# Altium footprint library Header_254.PcbLib: 4 footprints
Each footprint in its own frame and in the unit in brackets; x right, y up, seen from the top. Pads: shape width x height; smd on the part's side, far side on the other; paste and mask are expansions set on the pad; w line width, h text height; cw(c..) or ccw(c..) is an arc to the next point about the centre after c.
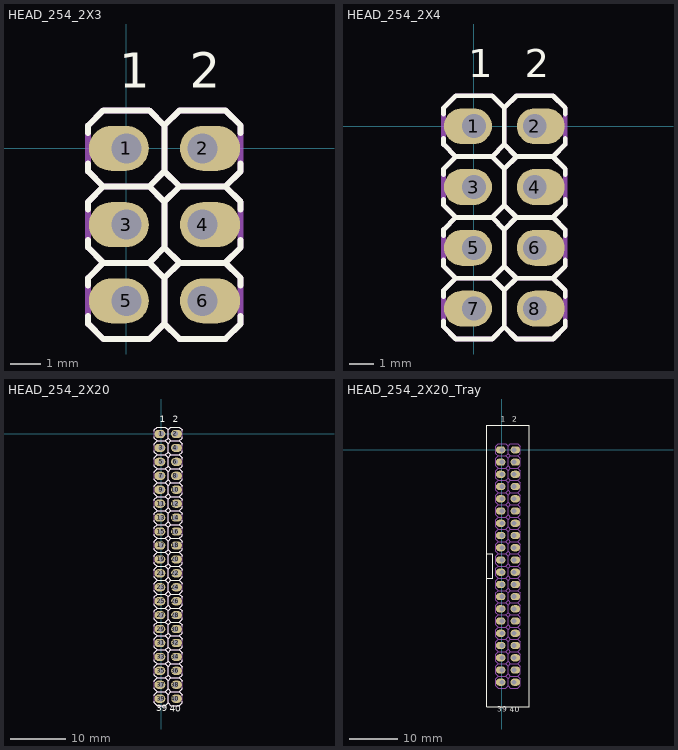
[diagram p0: the footprints below, top view; thin cyan lines are the x and y axes]

## HEAD_254_2X3 [mm] "Header 2.54mm 2x3"
pads (6):
  oval 2x1.5 hole 1 copper offset -0.25,0: 1(0,0) 3(0,-2.54) 5(0,-5.08)
  oval 2x1.5 hole 1 copper offset 0.25,0: 2(2.54,0) 4(2.54,-2.54) 6(2.54,-5.08)
Top Overlay:
  lines w0.2: -1.27,-5.588 -1.27,-5.842 -0.762,-6.35 0.762,-6.35 1.27,-5.842 ; -1.27,-4.572 -1.27,-4.318 -0.762,-3.81 ; -1.27,-3.048 -1.27,-3.302 -0.762,-3.81 ; -1.27,-2.032 -1.27,-1.778 -0.762,-1.27 ; -1.27,-0.508 -1.27,-0.762 -0.762,-1.27 ; -1.27,0.508 -1.27,0.762 -0.762,1.27 0.762,1.27 1.27,0.762 ; 3.81,-5.588 3.81,-5.842 3.302,-6.35 1.778,-6.35 1.27,-5.842 ; 3.81,-4.572 3.81,-4.318 3.302,-3.81 ; 3.81,-3.048 3.81,-3.302 3.302,-3.81 ; 3.81,-2.032 3.81,-1.778 3.302,-1.27 ; 3.81,-0.508 3.81,-0.762 3.302,-1.27 ; 3.81,0.508 3.81,0.762 3.302,1.27 1.778,1.27 1.27,0.762 ; -0.762,-3.81 0.762,-3.81 ; -0.762,-1.27 0.762,-1.27 ; 0.762,-3.81 1.27,-4.318 ; 0.762,-3.81 1.27,-3.302 ; 0.762,-1.27 1.27,-1.778 ; 0.762,-1.27 1.27,-0.762 ; 1.27,-5.842 1.27,-4.318 ; 1.27,-4.318 1.778,-3.81 ; 1.27,-3.302 1.27,-1.778 ; 1.27,-3.302 1.778,-3.81 ; 1.27,-1.778 1.778,-1.27 ; 1.27,-0.762 1.27,0.762 ; 1.27,-0.762 1.778,-1.27 ; 1.778,-3.81 3.302,-3.81 ; 1.778,-1.27 3.302,-1.27
  text "1" at -0.236,1.644 h2
  text "2" at 2.115,1.644 h2
Bottom Overlay:
  text "1" at 0.236,0.882 h2
  text "2" at 2.965,0.882 h2
Top Assembly:
  lines w0.2: -0.762,-3.81 -1.27,-4.318 -1.27,-5.842 -0.762,-6.35 0.762,-6.35 1.27,-5.842 ; -0.762,-3.81 -1.27,-3.302 -1.27,-1.778 -0.762,-1.27 ; -0.762,-3.81 0.762,-3.81 ; -0.762,-1.27 -1.27,-0.762 -1.27,0.762 -0.762,1.27 0.762,1.27 1.27,0.762 ; -0.762,-1.27 0.762,-1.27 ; 0.762,-3.81 1.27,-4.318 ; 0.762,-3.81 1.27,-3.302 ; 0.762,-1.27 1.27,-1.778 ; 0.762,-1.27 1.27,-0.762 ; 1.27,-5.842 1.27,-4.318 ; 1.27,-5.842 1.778,-6.35 3.302,-6.35 3.81,-5.842 3.81,-4.318 3.302,-3.81 ; 1.27,-4.318 1.778,-3.81 ; 1.27,-3.302 1.27,-1.778 ; 1.27,-3.302 1.778,-3.81 ; 1.27,-1.778 1.778,-1.27 ; 1.27,-0.762 1.27,0.762 ; 1.27,-0.762 1.778,-1.27 ; 1.27,0.762 1.778,1.27 3.302,1.27 3.81,0.762 3.81,-0.762 3.302,-1.27 ; 1.778,-3.81 3.302,-3.81 ; 1.778,-1.27 3.302,-1.27 ; 3.302,-3.81 3.81,-3.302 3.81,-1.778 3.302,-1.27
3D body: height 10, standoff -3, extent 2.19,-5.43 2.89,-4.73
3D body: height 2, standoff 0, extent 1.27,-6.35 3.81,-3.81
3D body: height 10, standoff -3, extent -0.35,-5.43 0.35,-4.73
3D body: height 2, standoff 0, extent -1.27,-6.35 1.27,-3.81
3D body: height 10, standoff -3, extent 2.19,-2.89 2.89,-2.19
3D body: height 2, standoff 0, extent 1.27,-3.81 3.81,-1.27
3D body: height 10, standoff -3, extent -0.35,-2.89 0.35,-2.19
3D body: height 2, standoff 0, extent -1.27,-3.81 1.27,-1.27
3D body: height 10, standoff -3, extent 2.19,-0.35 2.89,0.35
3D body: height 2, standoff 0, extent 1.27,-1.27 3.81,1.27
3D body: height 10, standoff -3, extent -0.35,-0.35 0.35,0.35
3D body: height 2, standoff 0, extent -1.27,-1.27 1.27,1.27

## HEAD_254_2X4 [mm] "Header 2.54mm 2x4"
pads (8):
  oval 2x1.5 hole 1 copper offset -0.25,0: 1(0,0) 3(0,-2.54) 5(0,-5.08) 7(0,-7.62)
  oval 2x1.5 hole 1 copper offset 0.25,0: 2(2.54,0) 4(2.54,-2.54) 6(2.54,-5.08) 8(2.54,-7.62)
Top Overlay:
  lines w0.2: -1.27,-8.128 -1.27,-8.382 -0.762,-8.89 0.762,-8.89 1.27,-8.382 ; -1.27,-7.112 -1.27,-6.858 -0.762,-6.35 ; -1.27,-5.588 -1.27,-5.842 -0.762,-6.35 ; -1.27,-4.572 -1.27,-4.318 -0.762,-3.81 ; -1.27,-3.048 -1.27,-3.302 -0.762,-3.81 ; -1.27,-2.032 -1.27,-1.778 -0.762,-1.27 ; -1.27,-0.508 -1.27,-0.762 -0.762,-1.27 ; -1.27,0.508 -1.27,0.762 -0.762,1.27 0.762,1.27 1.27,0.762 ; 3.81,-8.128 3.81,-8.382 3.302,-8.89 1.778,-8.89 1.27,-8.382 ; 3.81,-7.112 3.81,-6.858 3.302,-6.35 ; 3.81,-5.588 3.81,-5.842 3.302,-6.35 ; 3.81,-4.572 3.81,-4.318 3.302,-3.81 ; 3.81,-3.048 3.81,-3.302 3.302,-3.81 ; 3.81,-2.032 3.81,-1.778 3.302,-1.27 ; 3.81,-0.508 3.81,-0.762 3.302,-1.27 ; 3.81,0.508 3.81,0.762 3.302,1.27 1.778,1.27 1.27,0.762 ; -0.762,-6.35 0.762,-6.35 ; -0.762,-3.81 0.762,-3.81 ; -0.762,-1.27 0.762,-1.27 ; 0.762,-6.35 1.27,-6.858 ; 0.762,-6.35 1.27,-5.842 ; 0.762,-3.81 1.27,-4.318 ; 0.762,-3.81 1.27,-3.302 ; 0.762,-1.27 1.27,-1.778 ; 0.762,-1.27 1.27,-0.762 ; 1.27,-8.382 1.27,-6.858 ; 1.27,-6.858 1.778,-6.35 ; 1.27,-5.842 1.27,-4.318 ; 1.27,-5.842 1.778,-6.35 ; 1.27,-4.318 1.778,-3.81 ; 1.27,-3.302 1.27,-1.778 ; 1.27,-3.302 1.778,-3.81 ; 1.27,-1.778 1.778,-1.27 ; 1.27,-0.762 1.27,0.762 ; 1.27,-0.762 1.778,-1.27 ; 1.778,-6.35 3.302,-6.35 ; 1.778,-3.81 3.302,-3.81 ; 1.778,-1.27 3.302,-1.27
  text "1" at -0.236,1.644 h2
  text "2" at 2.115,1.644 h2
Bottom Overlay:
  text "1" at 0.236,0.882 h2
  text "2" at 2.965,0.882 h2
Top Assembly:
  lines w0.2: -0.762,-6.35 -1.27,-6.858 -1.27,-8.382 -0.762,-8.89 0.762,-8.89 1.27,-8.382 ; -0.762,-6.35 -1.27,-5.842 -1.27,-4.318 -0.762,-3.81 ; -0.762,-6.35 0.762,-6.35 ; -0.762,-3.81 -1.27,-3.302 -1.27,-1.778 -0.762,-1.27 ; -0.762,-3.81 0.762,-3.81 ; -0.762,-1.27 -1.27,-0.762 -1.27,0.762 -0.762,1.27 0.762,1.27 1.27,0.762 ; -0.762,-1.27 0.762,-1.27 ; 0.762,-6.35 1.27,-6.858 ; 0.762,-6.35 1.27,-5.842 ; 0.762,-3.81 1.27,-4.318 ; 0.762,-3.81 1.27,-3.302 ; 0.762,-1.27 1.27,-1.778 ; 0.762,-1.27 1.27,-0.762 ; 1.27,-8.382 1.27,-6.858 ; 1.27,-8.382 1.778,-8.89 3.302,-8.89 3.81,-8.382 3.81,-6.858 3.302,-6.35 ; 1.27,-6.858 1.778,-6.35 ; 1.27,-5.842 1.27,-4.318 ; 1.27,-5.842 1.778,-6.35 ; 1.27,-4.318 1.778,-3.81 ; 1.27,-3.302 1.27,-1.778 ; 1.27,-3.302 1.778,-3.81 ; 1.27,-1.778 1.778,-1.27 ; 1.27,-0.762 1.27,0.762 ; 1.27,-0.762 1.778,-1.27 ; 1.27,0.762 1.778,1.27 3.302,1.27 3.81,0.762 3.81,-0.762 3.302,-1.27 ; 1.778,-6.35 3.302,-6.35 ; 1.778,-3.81 3.302,-3.81 ; 1.778,-1.27 3.302,-1.27 ; 3.302,-6.35 3.81,-5.842 3.81,-4.318 3.302,-3.81 ; 3.302,-3.81 3.81,-3.302 3.81,-1.778 3.302,-1.27
3D body: height 10, standoff -3, extent 2.19,-7.97 2.89,-7.27
3D body: height 2, standoff 0, extent 1.27,-8.89 3.81,-6.35
3D body: height 10, standoff -3, extent -0.35,-7.97 0.35,-7.27
3D body: height 2, standoff 0, extent -1.27,-8.89 1.27,-6.35
3D body: height 10, standoff -3, extent 2.19,-5.43 2.89,-4.73
3D body: height 2, standoff 0, extent 1.27,-6.35 3.81,-3.81
3D body: height 10, standoff -3, extent -0.35,-5.43 0.35,-4.73
3D body: height 2, standoff 0, extent -1.27,-6.35 1.27,-3.81
3D body: height 10, standoff -3, extent 2.19,-2.89 2.89,-2.19
3D body: height 2, standoff 0, extent 1.27,-3.81 3.81,-1.27
3D body: height 10, standoff -3, extent -0.35,-2.89 0.35,-2.19
3D body: height 2, standoff 0, extent -1.27,-3.81 1.27,-1.27
3D body: height 10, standoff -3, extent 2.19,-0.35 2.89,0.35
3D body: height 2, standoff 0, extent 1.27,-1.27 3.81,1.27
3D body: height 10, standoff -3, extent -0.35,-0.35 0.35,0.35
3D body: height 2, standoff 0, extent -1.27,-1.27 1.27,1.27

## HEAD_254_2X20 [mm] "Header 2.54mm 2x4"
pads (40):
  oval 2x1.5 hole 1 copper offset -0.25,0: 1(0,0) 3(0,-2.54) 5(0,-5.08) 7(0,-7.62) 9(0,-10.16) 11(0,-12.7) 13(0,-15.24) 15(0,-17.78) 17(0,-20.32) 19(0,-22.86) 21(0,-25.4) 23(0,-27.94) 25(0,-30.48) 27(0,-33.02) 29(0,-35.56) 31(0,-38.1) 33(0,-40.64) 35(0,-43.18) 37(0,-45.72) 39(0,-48.26)
  oval 2x1.5 hole 1 copper offset 0.25,0: 2(2.54,0) 4(2.54,-2.54) 6(2.54,-5.08) 8(2.54,-7.62) 10(2.54,-10.16) 12(2.54,-12.7) 14(2.54,-15.24) 16(2.54,-17.78) 18(2.54,-20.32) 20(2.54,-22.86) 22(2.54,-25.4) 24(2.54,-27.94) 26(2.54,-30.48) 28(2.54,-33.02) 30(2.54,-35.56) 32(2.54,-38.1) 34(2.54,-40.64) 36(2.54,-43.18) 38(2.54,-45.72) 40(2.54,-48.26)
Top Overlay:
  drawing of 302 lines, arcs and shapes, not listed
  text "40" at 1.599,-51.051 h2
  text "39" at -0.917,-51.05 h2
  text "2" at 2.115,1.644 h2
  text "1" at -0.236,1.644 h2
Bottom Overlay:
  text "40" at 3.481,-50.797 h2
  text "39" at 0.917,-50.796 h2
  text "2" at 2.965,0.882 h2
  text "1" at 0.236,0.882 h2
Top Assembly:
  drawing of 262 lines, arcs and shapes, not listed
3D body: height 2, standoff 0, extent -1.27,-49.53 1.27,-46.99
3D body: height 10, standoff -3, extent -0.35,-48.61 0.35,-47.91
3D body: height 2, standoff 0, extent 1.27,-49.53 3.81,-46.99
3D body: height 10, standoff -3, extent 2.19,-48.61 2.89,-47.91
3D body: height 2, standoff 0, extent -1.27,-46.99 1.27,-44.45
3D body: height 10, standoff -3, extent -0.35,-46.07 0.35,-45.37
3D body: height 2, standoff 0, extent 1.27,-46.99 3.81,-44.45
3D body: height 10, standoff -3, extent 2.19,-46.07 2.89,-45.37
3D body: height 2, standoff 0, extent -1.27,-44.45 1.27,-41.91
3D body: height 10, standoff -3, extent -0.35,-43.53 0.35,-42.83
3D body: height 2, standoff 0, extent 1.27,-44.45 3.81,-41.91
3D body: height 10, standoff -3, extent 2.19,-43.53 2.89,-42.83
3D body: height 2, standoff 0, extent -1.27,-41.91 1.27,-39.37
3D body: height 10, standoff -3, extent -0.35,-40.99 0.35,-40.29
3D body: height 2, standoff 0, extent 1.27,-41.91 3.81,-39.37
3D body: height 10, standoff -3, extent 2.19,-40.99 2.89,-40.29
3D body: height 2, standoff 0, extent -1.27,-39.37 1.27,-36.83
3D body: height 10, standoff -3, extent -0.35,-38.45 0.35,-37.75
3D body: height 2, standoff 0, extent 1.27,-39.37 3.81,-36.83
3D body: height 10, standoff -3, extent 2.19,-38.45 2.89,-37.75
3D body: height 2, standoff 0, extent -1.27,-36.83 1.27,-34.29
3D body: height 10, standoff -3, extent -0.35,-35.91 0.35,-35.21
3D body: height 2, standoff 0, extent 1.27,-36.83 3.81,-34.29
3D body: height 10, standoff -3, extent 2.19,-35.91 2.89,-35.21
3D body: height 2, standoff 0, extent -1.27,-34.29 1.27,-31.75
3D body: height 10, standoff -3, extent -0.35,-33.37 0.35,-32.67
3D body: height 2, standoff 0, extent 1.27,-34.29 3.81,-31.75
3D body: height 10, standoff -3, extent 2.19,-33.37 2.89,-32.67
3D body: height 2, standoff 0, extent -1.27,-31.75 1.27,-29.21
3D body: height 10, standoff -3, extent -0.35,-30.83 0.35,-30.13
3D body: height 2, standoff 0, extent 1.27,-31.75 3.81,-29.21
3D body: height 10, standoff -3, extent 2.19,-30.83 2.89,-30.13
3D body: height 2, standoff 0, extent -1.27,-29.21 1.27,-26.67
3D body: height 10, standoff -3, extent -0.35,-28.29 0.35,-27.59
3D body: height 2, standoff 0, extent 1.27,-29.21 3.81,-26.67
3D body: height 10, standoff -3, extent 2.19,-28.29 2.89,-27.59
3D body: height 2, standoff 0, extent -1.27,-26.67 1.27,-24.13
3D body: height 10, standoff -3, extent -0.35,-25.75 0.35,-25.05
3D body: height 2, standoff 0, extent 1.27,-26.67 3.81,-24.13
3D body: height 10, standoff -3, extent 2.19,-25.75 2.89,-25.05
3D body: height 2, standoff 0, extent -1.27,-24.13 1.27,-21.59
3D body: height 10, standoff -3, extent -0.35,-23.21 0.35,-22.51
3D body: height 2, standoff 0, extent 1.27,-24.13 3.81,-21.59
3D body: height 10, standoff -3, extent 2.19,-23.21 2.89,-22.51
3D body: height 2, standoff 0, extent -1.27,-21.59 1.27,-19.05
3D body: height 10, standoff -3, extent -0.35,-20.67 0.35,-19.97
3D body: height 2, standoff 0, extent 1.27,-21.59 3.81,-19.05
3D body: height 10, standoff -3, extent 2.19,-20.67 2.89,-19.97
3D body: height 2, standoff 0, extent -1.27,-19.05 1.27,-16.51
3D body: height 10, standoff -3, extent -0.35,-18.13 0.35,-17.43
3D body: height 2, standoff 0, extent 1.27,-19.05 3.81,-16.51
3D body: height 10, standoff -3, extent 2.19,-18.13 2.89,-17.43
3D body: height 2, standoff 0, extent -1.27,-16.51 1.27,-13.97
3D body: height 10, standoff -3, extent -0.35,-15.59 0.35,-14.89
3D body: height 2, standoff 0, extent 1.27,-16.51 3.81,-13.97
3D body: height 10, standoff -3, extent 2.19,-15.59 2.89,-14.89
3D body: height 2, standoff 0, extent -1.27,-13.97 1.27,-11.43
3D body: height 10, standoff -3, extent -0.35,-13.05 0.35,-12.35
3D body: height 2, standoff 0, extent 1.27,-13.97 3.81,-11.43
3D body: height 10, standoff -3, extent 2.19,-13.05 2.89,-12.35
3D body: height 2, standoff 0, extent -1.27,-11.43 1.27,-8.89
3D body: height 10, standoff -3, extent -0.35,-10.51 0.35,-9.81
3D body: height 2, standoff 0, extent 1.27,-11.43 3.81,-8.89
3D body: height 10, standoff -3, extent 2.19,-10.51 2.89,-9.81
3D body: height 2, standoff 0, extent -1.27,-1.27 1.27,1.27
3D body: height 10, standoff -3, extent -0.35,-0.35 0.35,0.35
3D body: height 2, standoff 0, extent 1.27,-1.27 3.81,1.27
3D body: height 10, standoff -3, extent 2.19,-0.35 2.89,0.35
3D body: height 2, standoff 0, extent -1.27,-3.81 1.27,-1.27
3D body: height 10, standoff -3, extent -0.35,-2.89 0.35,-2.19
3D body: height 2, standoff 0, extent 1.27,-3.81 3.81,-1.27
3D body: height 10, standoff -3, extent 2.19,-2.89 2.89,-2.19
3D body: height 2, standoff 0, extent -1.27,-6.35 1.27,-3.81
3D body: height 10, standoff -3, extent -0.35,-5.43 0.35,-4.73
3D body: height 2, standoff 0, extent 1.27,-6.35 3.81,-3.81
3D body: height 10, standoff -3, extent 2.19,-5.43 2.89,-4.73
3D body: height 2, standoff 0, extent -1.27,-8.89 1.27,-6.35
3D body: height 10, standoff -3, extent -0.35,-7.97 0.35,-7.27
3D body: height 2, standoff 0, extent 1.27,-8.89 3.81,-6.35
3D body: height 10, standoff -3, extent 2.19,-7.97 2.89,-7.27

## HEAD_254_2X20_Tray [mm] "Header 2.54mm 2x20"
pads (40):
  oval 2x1.5 hole 1 copper offset -0.25,0: 1(0,0) 3(0,-2.54) 5(0,-5.08) 7(0,-7.62) 9(0,-10.16) 11(0,-12.7) 13(0,-15.24) 15(0,-17.78) 17(0,-20.32) 19(0,-22.86) 21(0,-25.4) 23(0,-27.94) 25(0,-30.48) 27(0,-33.02) 29(0,-35.56) 31(0,-38.1) 33(0,-40.64) 35(0,-43.18) 37(0,-45.72) 39(0,-48.26)
  oval 2x1.5 hole 1 copper offset 0.25,0: 2(2.54,0) 4(2.54,-2.54) 6(2.54,-5.08) 8(2.54,-7.62) 10(2.54,-10.16) 12(2.54,-12.7) 14(2.54,-15.24) 16(2.54,-17.78) 18(2.54,-20.32) 20(2.54,-22.86) 22(2.54,-25.4) 24(2.54,-27.94) 26(2.54,-30.48) 28(2.54,-33.02) 30(2.54,-35.56) 32(2.54,-38.1) 34(2.54,-40.64) 36(2.54,-43.18) 38(2.54,-45.72) 40(2.54,-48.26)
Top Overlay:
  lines w0.254: -3.175,-26.67 -1.905,-26.67 -1.905,-21.59 -3.175,-21.59 ; -3.175,-53.34 -3.175,5.08 5.715,5.08 5.715,-53.34 -3.175,-53.34
  text "40" at 1.599,-54.861 h2
  text "39" at -0.917,-54.86 h2
  text "2" at 2.115,5.454 h2
  text "1" at -0.236,5.454 h2
Bottom Overlay:
  text "40" at 3.481,-50.797 h2
  text "39" at 0.917,-50.796 h2
  text "2" at 2.965,0.882 h2
  text "1" at 0.236,0.882 h2
Top Assembly:
  drawing of 262 lines, arcs and shapes, not listed
3D body "Header_2.54_2x20_Tray.stp": height 9.35, standoff -3, extent -3.155,-53.36 5.695,5.1